# EAGLE library part CC430F513X (library Mine)
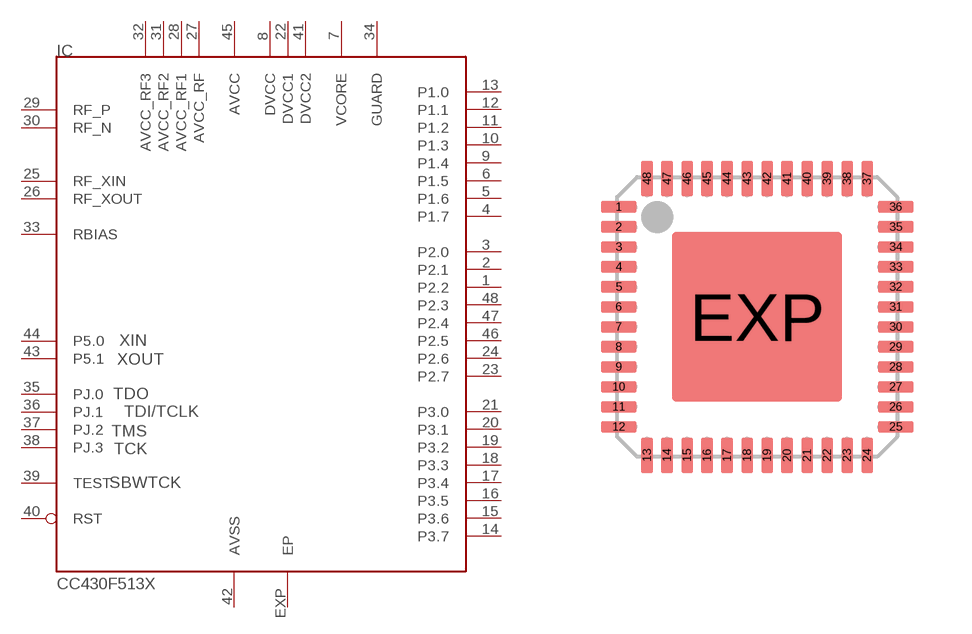
[diagram p62: symbol with the pads of QFN48; footprint QFN48]

Designator prefix IC

## CC430F513X  [QFN48]
1  P2.2
2  P2.1
3  P2.0
4  P1.7
5  P1.6
6  P1.5
7  VCORE  sup
8  DVCC  sup
9  P1.4
10  P1.3
11  P1.2
12  P1.1
13  P1.0
14  P3.7
15  P3.6
16  P3.5
17  P3.4
18  P3.3
19  P3.2
20  P3.1
21  P3.0
22  DVCC1  sup
23  P2.7
24  P2.6
25  RF_XIN  in
26  RF_XOUT  out
27  AVCC_RF  sup
28  AVCC_RF1  sup
29  RF_P
30  RF_N
31  AVCC_RF2  sup
32  AVCC_RF3  sup
33  RBIAS
34  GUARD  sup
35  PJ.0
36  PJ.1
37  PJ.2
38  PJ.3
39  TEST  in
40  RST
41  DVCC2  sup
42  AVSS  sup
43  P5.1
44  P5.0
45  AVCC  sup
46  P2.5
47  P2.4
48  P2.3
EXP  EP  sup

## Footprint QFN48 (pad centres in mm)
48-pin QFN 7 x 7 mm LF48 48 Quad Flat Package No Leads Source: http://v4.cypress.com/cfuploads/img/products/cywusb6934.pdf
smd 0.9 x 0.3: 1 -3.462,2.75; 2 -3.462,2.25; 3 -3.462,1.75; 4 -3.462,1.25; 5 -3.462,0.75; 6 -3.462,0.25; 7 -3.462,-0.25; 8 -3.462,-0.75; 9 -3.462,-1.25; 10 -3.462,-1.75; 11 -3.462,-2.25; 12 -3.462,-2.75; 25 3.462,-2.75; 26 3.462,-2.25; 27 3.462,-1.75; 28 3.462,-1.25; 29 3.462,-0.75; 30 3.462,-0.25; 31 3.462,0.25; 32 3.462,0.75; 33 3.462,1.25; 34 3.462,1.75; 35 3.462,2.25; 36 3.462,2.75
smd 0.3 x 0.9: 13 -2.75,-3.462; 14 -2.25,-3.462; 15 -1.75,-3.462; 16 -1.25,-3.462; 17 -0.75,-3.462; 18 -0.25,-3.462; 19 0.25,-3.462; 20 0.75,-3.462; 21 1.25,-3.462; 22 1.75,-3.462; 23 2.25,-3.462; 24 2.75,-3.462; 37 2.75,3.462; 38 2.25,3.462; 39 1.75,3.462; 40 1.25,3.462; 41 0.75,3.462; 42 0.25,3.462; 43 -0.25,3.462; 44 -0.75,3.462; 45 -1.25,3.462; 46 -1.75,3.462; 47 -2.25,3.462; 48 -2.75,3.462
smd 4.25 x 4.25: EXP 0,0